# EAGLE library part HIROSE_MICROSD (library sharkdunio)
Hirose DM3D-SF uSD slot
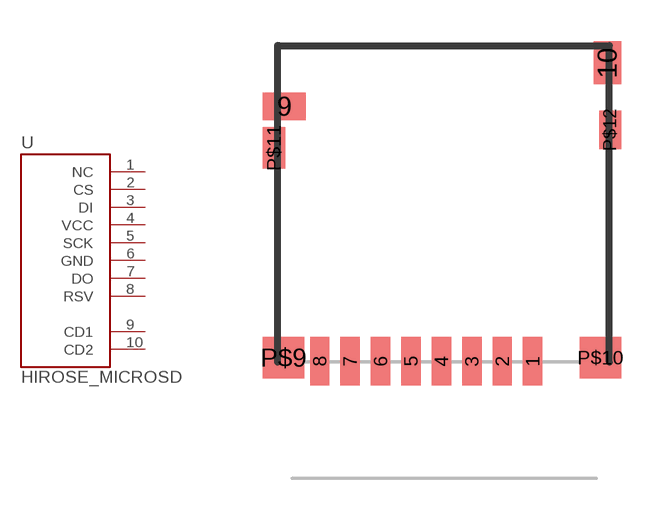
[diagram p4: symbol with the pads of AMPHENOL_MICROSD; footprint AMPHENOL_MICROSD]

Designator prefix -

## HIROSE_MICROSD  [AMPHENOL_MICROSD]
1  NC  nc
2  CS  in
3  DI  in
4  VCC  pwr
5  SCK
6  GND  pwr
7  DO  out
8  RSV
9  CD1
10  CD2

## Footprint AMPHENOL_MICROSD (pad centres in mm)
smd 0.7 x 1.75: 1 3.2,-0.875; 2 2.1,-0.875; 3 1,-0.875; 4 -0.1,-0.875; 5 -1.2,-0.875; 6 -2.3,-0.875; 7 -3.4,-0.875; 8 -4.5,-0.875
smd 1.55 x 1: 9 -5.775,8.35
smd 1 x 1.55: 10 5.9,9.925
smd 1.5 x 1.5: P$9 -5.8,-0.75; P$10 5.65,-0.75
smd 0.8 x 1.5: P$11 -6.15,6.85
smd 0.8 x 1.4: P$12 6,7.5